# EAGLE library part FLASH-SPI (library Particle)
Generic SPI FLASH memory in SO08 package
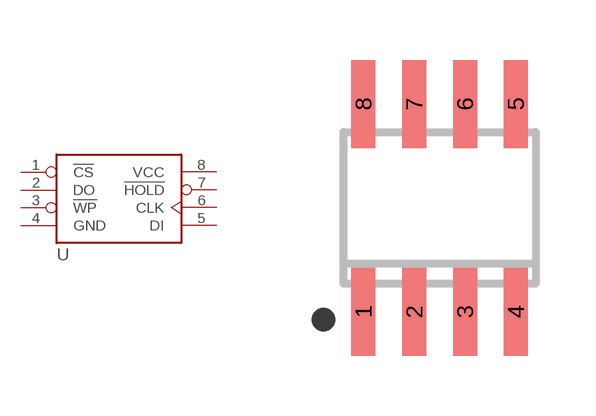
[diagram p34: symbol with the pads of SO08; footprint SO08]

Designator prefix U

## FLASH-SPI  [SO08]
1  !CS
2  DO
3  !WP
4  GND  pwr
5  DI
6  CLK
7  !HOLD
8  VCC  pwr

## Footprint SO08 (pad centres in mm)
SMALL OUTLINE INTEGRATED CIRCUIT body 3.9 mm/JEDEC MS-012AA
smd 0.6 x 2.2: 1 -1.905,-2.6; 2 -0.635,-2.6; 3 0.635,-2.6; 4 1.905,-2.6; 5 1.905,2.6; 6 0.635,2.6; 7 -0.635,2.6; 8 -1.905,2.6